# Altium schematic symbol library Faydali_Yuk_Schlib1.SchLib: 26 symbols
Pins are listed as number, name and electrical type; pins without a type are passive.

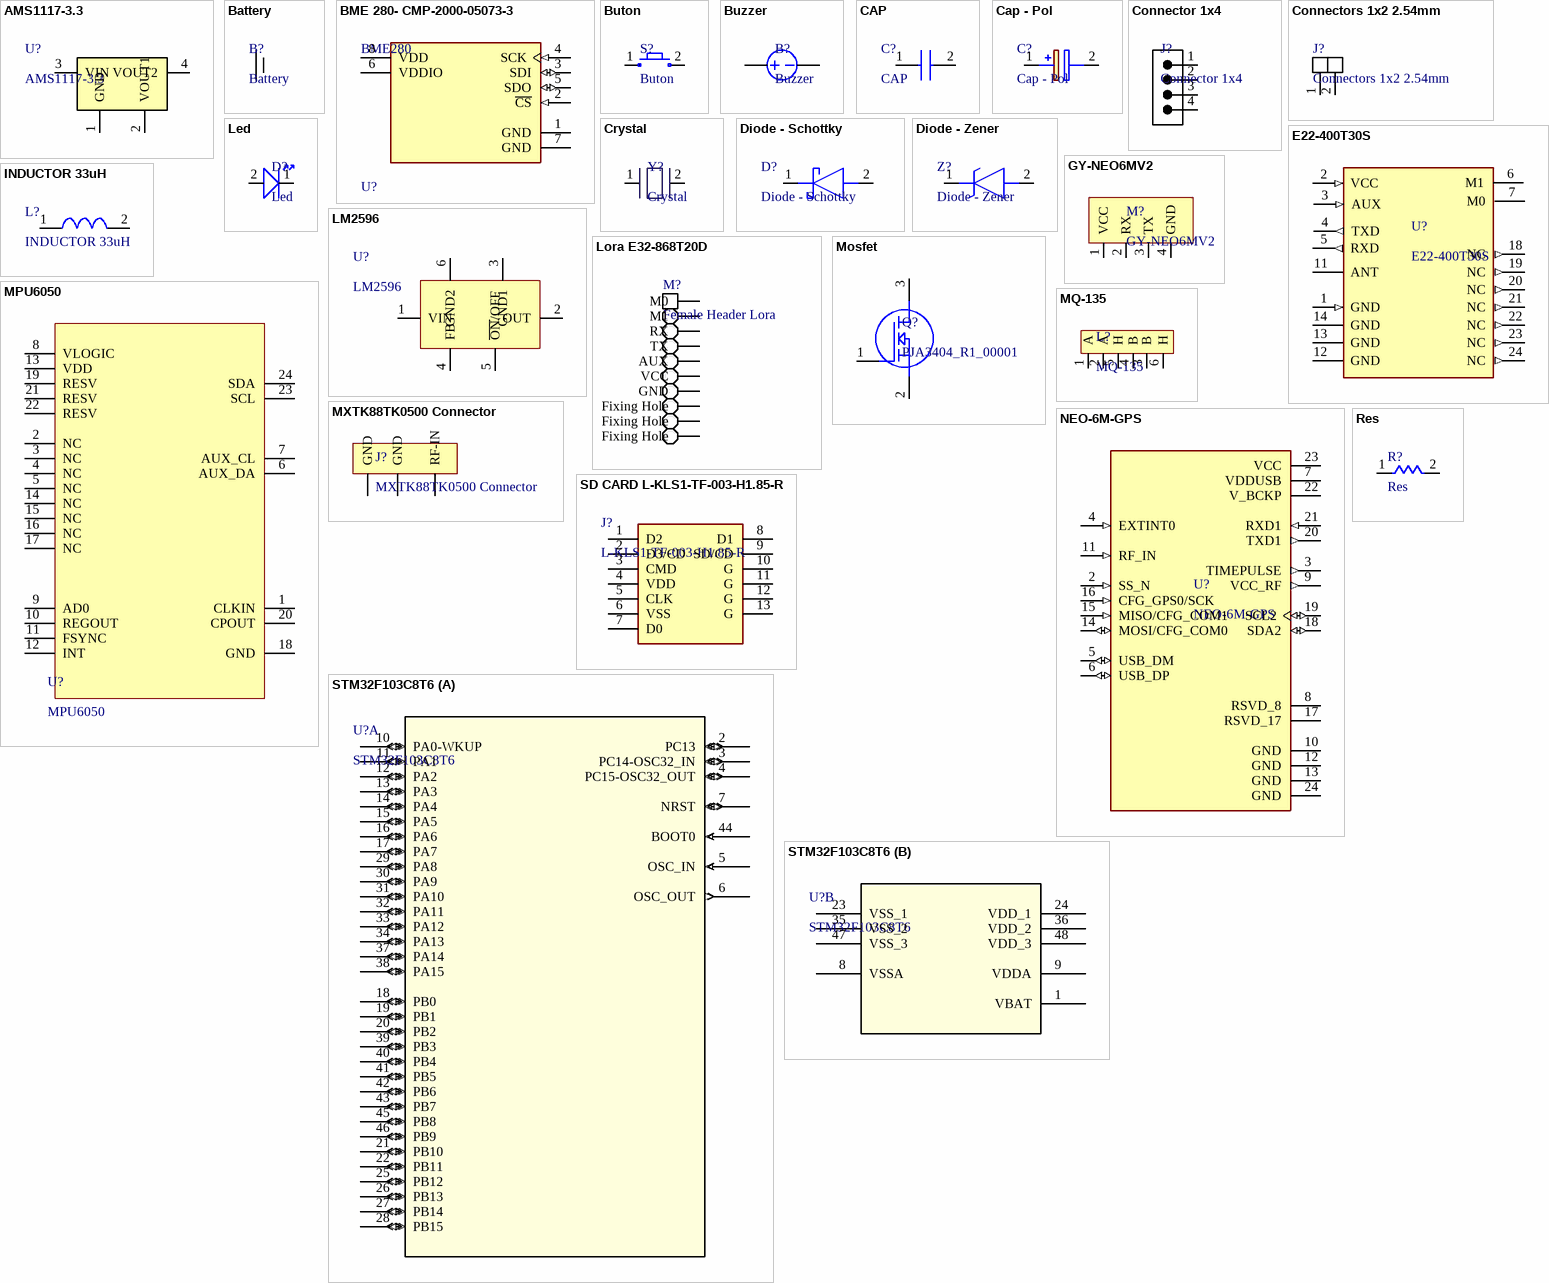
[diagram p0: symbols AMS1117-3.3 to STM32F103C8T6]

## AMS1117-3.3
designator U?
Manufacturer_Name: Advanced Monolithic Systems; Datasheet Link: http://www.advanced-monolithic.com/pdf/ds1117.pdf; Height: 1.8mm; Manufacturer_Part_Number: AMS1117-3.3; ComponentLink1Description: Satın Alma Linki; ComponentLink1URL: https://ozdisan.com/entegre-devreler-ics/guc-entegreleri/lineer-voltaj-regulatorleri/AMS1117-3-3
footprint SOT-223 - AMS1117-3.3
pins: 1 GND, 2 VOUT1, 3 VIN, 4 VOUT2

## Battery
designator B?
ComponentLink1Description: Satın Alma Linki; ComponentLink1URL: https://www.gittigidiyor.com/bilgisayar-tablet/12v-2-6a-lityum-batarya_pdp_728518934
footprint Lityum Battery

## BME 280- CMP-2000-05073-3
designator U?, comment BME280
SENSOR PRESSURE HUMIDITY TEMP; Sensor Type: Temperature; Accuracy: 3%; Response Time: 1s; Output Type: SPI; Min Operating Temperature: -40°C; Max Operating Temperature: 85°C; Case/Package: LGA; Packaging: Cut Tape; Mount: Surface Mount; Lead Free: Lead Free; Number of Pins: 8; ComponentLink1Description: Satın Alma Linki; ComponentLink1URL: https://ozdisan.com/optolar-ve-sensorler/sensorler/nem-sensorleri/BME280; ComponentLink2Description: Datasheet; ComponentLink2URL: https://cdn.ozdisan.com/ETicaret_Dosya/611017_160241.pdf
footprint BME280 - FP-BME280-MFG
pins: 1 GND (power), 2 ~{CS} (in), 3 SDI (io), 4 SCK (in), 5 SDO (io), 6 VDDIO (power), 7 GND (power), 8 VDD (power)

## Buton
designator S?
DTSMF-31R-V-T/R - SWITCH TACT 6.00x3.50 4.30mm 260gF SMT V/T; ComponentLink1Description: Satın Alma Linki; ComponentLink1URL: https://ozdisan.com/Product/Detail/354235/DTSMF-31R-V-TR; ComponentLink2Description: Datasheet; ComponentLink2URL: https://cdn.ozdisan.com/ETicaret_Dosya/485632_396522.pdf
footprint Button - DTSMF31RVTR
pins: 1, 2

## Buzzer
designator B?
ComponentLink1Description: Satın Alma Linki; ComponentLink1URL: https://www.robotistan.com/buzzer; ComponentLink2Description: Datasheet; ComponentLink2URL: *
footprint Buzzer
pins: 1, 2

## CAP
designator C?
Capacitor; ComponentLink1Description: Satın Alma Linki; ComponentLink1URL: https://ozdisan.com/pasif-komponentler/kondansatorler/smt-smd-ve-mlcc-kondansatorler/CL10B472KB8NNNC; ComponentLink2Description: Satın Alma Linki; ComponentLink2URL: https://ozdisan.com/pasif-komponentler/kondansatorler/smt-smd-ve-mlcc-kondansatorler/CL10C200JB8NNNC; ComponentLink3Description: Satın Alma Linki; ComponentLink3URL: https://ozdisan.com/pasif-komponentler/kondansatorler/smt-smd-ve-mlcc-kondansatorler/CL10B104KB8NNNC; ComponentLink4Description: Datasheet; ComponentLink4URL: https://cdn.ozdisan.com/ETicaret_Dosya/448212_5798276.PDF; ComponentLink5Description: Satın Alma Linki; ComponentLink5URL: https://ozdisan.com/pasif-komponentler/kondansatorler/smt-smd-ve-mlcc-kondansatorler/CL10C101JB8NNNC
footprint CAP - 0603
footprint CAP - 0805
pins: 1, 2

## Cap - Pol
designator C?
Capacitor Polarised; ComponentLink1Description: Satın Alma Linki; ComponentLink1URL: https://ozdisan.com/pasif-komponentler/kondansatorler/aluminyum-kondansatorler/BDS35VC220MH10TP; ComponentLink2Description: Satın Alma Linki; ComponentLink2URL: https://ozdisan.com/pasif-komponentler/kondansatorler/aluminyum-kondansatorler/SC1H226M6L005VR; ComponentLink3Description: Satın Alma Linki; ComponentLink3URL: https://ozdisan.com/pasif-komponentler/kondansatorler/aluminyum-kondansatorler/BDA50VC10MF55TP; ComponentLink4Description: Datasheet; ComponentLink4URL: https://cdn.ozdisan.com/ETicaret_Dosya/455406_6857235.pdf
footprint CAPP_Lytic_D_6.6
footprint CAPP_Lytic_F_8.3
pins: 1 +, 2 -

## Connector 1x4
designator J?
MOLEX-705530003 - CONNECTOR HEADER 2.54MM 4P 90C GOLD; ComponentLink1Description: Datasheet; ComponentLink1URL: https://www.molex.com/pdm_docs/sd/705530003_sd.pdf; ComponentLink2Description: Satın Alma Linki; ComponentLink2URL: https://www.ozdisan.com/konnektor-ve-baglanti-elemanlari/konnektor-cesitleri/pcb-konnektorler/MOLEX-705530003
footprint Connector 1x4
pins: 1, 2, 3, 4

## Connectors 1x2 2.54mm
designator J?
2 Pin (1x2) 2.54mm Erkek Pin Header THT; ComponentLink1Description: Satın Alma Linki; ComponentLink1URL: https://www.direnc.net/2-pin-1x2-254mm-erkek-pin-header-tht; ComponentLink2Description: Datasheet; ComponentLink2URL: https://pdf.direnc.net/upload/2-pin-1x2-254mm-erkek-pin-header-tht-datasheet.pdf
footprint Connectors 1x2 2.54mm
pins: 1, 2

## Crystal
designator Y?
AS-8.000-18-SMD-TR - CRYSTAL 8.0000MHZ 18PF SMD; ComponentLink1Description: Satın Alma Linki; ComponentLink1URL: https://ozdisan.com/pasif-komponentler/kristaller-osilatorler-ve-rezanatorler/kristaller/AS-8-000-18-SMD-TR; ComponentLink2Description: Datasheet; ComponentLink2URL: https://cdn.ozdisan.com/ETicaret_Dosya/40505_2732396.pdf
footprint Crystal - HC-49S SMD
pins: 1, 2

## Diode - Schottky
designator D?
Schottky Diode; ComponentLink1Description: Satın Alma Linki; ComponentLink1URL: https://ozdisan.com/guc-yari-iletkenleri/diyotlar-modul-diyotlar-ve-dogrultucular/schottky-diyotlar/SK56-HT; ComponentLink2Description: Datasheet; ComponentLink2URL: https://cdn.ozdisan.com/ETicaret_Dosya/475561_8333135.pdf
footprint DO214AB (SMC)
pins: 1 K, 2 A

## Diode - Zener
designator Z?
Zener Diode; ComponentLink1Description: Satın Alma Linki; ComponentLink1URL: https://www.ozdisan.com/guc-yari-iletkenleri/diyotlar-modul-diyotlar-ve-dogrultucular/zener-diyotlar/ZMM55C3V3-HT; ComponentLink2Description: Datasheet; ComponentLink2URL: https://cdn.ozdisan.com/ETicaret_Dosya/417232_6139407.pdf
footprint SOD-80 (MINIMELF)
pins: 1 K, 2 A

## E22-400T30S
designator U?
E22-400T30S is a wireless serial port module _UART_ based on SEMTECH's SX1262 RF chip.; MP: E22-900T30S; MF: EBYTE; Package: Package Analog Devices; Price: None; Value: *; SnapEDA_Link: https://www.snapeda.com/parts/E22-900T30S/EBYTE/view-part/3611926/?ref=snap; Availability: Unavailable; ComponentLink1Description: Satın Alma L,nk,; ComponentLink1URL: https://www.f1depo.com/urun/ebyte-e220-400t30s-433-mhz-30dbm-lora-modul-10km; ComponentLink2Description: Datasheet; ComponentLink2URL: https://www.google.com/search?q=EBYTE+E220-400T30S+433+Mhz+30dbm+Lora+Mod%C3%BCl+datasheet&oq=EBYTE+E220-400T30S+433+Mhz+30dbm+Lora+Mod%C3%BCl+datasheet&aqs=chrome..69i57j33i10i21.2976j0j7&sourceid=chrome&ie=UTF-8
footprint E220-400T30S
pins: 1 GND (in), 2 VCC (in), 3 AUX (in), 4 TXD (out), 5 RXD (out), 6 M1 (power), 7 M0 (power), 11 ANT (power), 12 GND (power), 13 GND (power), 14 GND (power), 18 NC (out), 19 NC (out), 20 NC (out), 21 NC (out), 22 NC (out), 23 NC (out), 24 NC (out)

## GY-NEO6MV2
designator M?
GY-NEO6MV2 GPS Modülü - Uçuş Kontrol Sistem GPS′i; ComponentLink1Description: Satın Alma Linki; ComponentLink1URL: https://www.robotistan.com/gy-neo6mv2-gps-modulu-ucus-kontrol-sistem-gpsi; ComponentLink2Description: Datasheet; ComponentLink2URL: https://www.rlocman.ru/i/File/2011/04/22/1.pdf
footprint GY-NEO6MV2
pins: 1 VCC, 2 RX, 3 TX, 4 GND

## INDUCTOR 33uH
designator L?
SRI1204-330M - INDUCTOR POWER 33UH 12X12X5MM SMD; ComponentLink1Description: Datasheet; ComponentLink1URL: https://cdn.ozdisan.com/ETicaret_Dosya/501799_1085379.pdf; ComponentLink2Description: Satın Alma Linki; ComponentLink2URL: https://ozdisan.com/pasif-komponentler/induktorler/sabit-induktorler/SRI1204-330M
footprint INDUCTOR  - 12X12 SMD
pins: 1, 2

## Led
designator D?
HL-PST-1608U51GC - LED SMD 0603 GREEN 500mcd 120° WATER CLEAR; ComponentLink1Description: Satın Alma Linki; ComponentLink1URL: https://ozdisan.com/Product/Detail/471660/HL-PST-1608U51GC; ComponentLink2Description: Datasheet; ComponentLink2URL: https://cdn.ozdisan.com/ETicaret_Dosya/471660_7204356.pdf
footprint LED - 0603
pins: 1, 2

## LM2596
designator U?
LM2596R-5.0-HTC - IC-2596 V.REG.3A 5V STEP-DOWN TO-263-5L; ComponentLink1Description: Datasheet; ComponentLink1URL: https://cdn.ozdisan.com/ETicaret_Dosya/587696_4979854.pdf; ComponentLink2Description: Satın Alma Linki; ComponentLink2URL: https://ozdisan.com/entegre-devreler-ics/guc-entegreleri/dc-dc-voltaj-regulatorleri/LM2596R-5-0-HTC
footprint TO263-5 (D2PAK-5) - LM2596R-5.0-HTC
pins: 1 VIN, 2 OUT, 3 GND1, 4 FB, 5 ~{ON}/OFF, 6 GND2

## Lora E32-868T20D
designator M?, comment Female Header Lora
E32-868T20D; ComponentLink3Description: Satın Alma Linki; ComponentLink3URL: https://urun.n11.com/arduino-urunleri-ve-setleri/yeni-868-mhz-915mhz-5km-menzilli-20dbm-100mw-e32-900t20d-lora-P485945526; ComponentLink4Description: Datasheet; ComponentLink4URL: https://www.ebyte.com/en/product-view-news.html?id=132
footprint Lora - E32-868T20D
pins: 1 M0, 2 M1, 3 RX, 4 TX, 5 AUX, 6 VCC, 7 GND, 8 Fixing Hole, 9 Fixing Hole, 10 Fixing Hole

## Mosfet
designator Q?, comment PJA3404_R1_00001
PJA3404_R1_00001 - MOSFET DIS.5.6A 30V N-CH SOT23 ENHANCEMENT SMT; ComponentLink1Description: Satın Alma Linki; ComponentLink1URL: https://www.ozdisan.com/guc-yari-iletkenleri/mosfetler/mosfet-discrete/PJA3404R100001; ComponentLink2Description: Datasheet; ComponentLink2URL: https://cdn.ozdisan.com/ETicaret_Dosya/462895_6521209.pdf
footprint SOT95P240X110-3N (SOT23, 3-Leads, Body 2,92x2,40mm, Pitch 0,95mm, IPC Medium Density)
pins: 1, 2, 3

## MPU6050
designator U?
MPU6050 GYRO; ComponentLink1Description: Satın Alma Linki; ComponentLink1URL: https://tr.aliexpress.com/item/1005001724323744.html?gatewayAdapt=glo2tur&_randl_currency=TRY&_randl_shipto=TR&src=google&aff_fcid=dbdd7f5563804875a046a33b7e55afff-1643366594388-08611-UneMJZVf&aff_fsk=UneMJZVf&aff_platform=aaf&sk=UneMJZVf&aff_trace_key=dbdd7f5563804875a046a33b7e55afff-1643366594388-08611-UneMJZVf&terminal_id=cd33f9e12bf84a9c9c6bb26df30b5329; ComponentLink2Description: Datasheet; ComponentLink2URL: https://invensense.tdk.com/wp-content/uploads/2015/02/MPU-6000-Datasheet1.pdf
footprint QFN50P400X400X90_HS-25N - duplicate (QFN, 24-Leads, Body 4,00x4,00mm, Pitch 0,50mm, Thermal Pad 2,70x2,60mm, IPC Medium Density)
pins: 1 CLKIN, 2 NC, 3 NC, 4 NC, 5 NC, 6 AUX_DA, 7 AUX_CL, 8 VLOGIC, 9 AD0, 10 REGOUT, 11 FSYNC, 12 INT, 13 VDD, 14 NC, 15 NC, 16 NC, 17 NC, 18 GND, 19 RESV, 20 CPOUT, 21 RESV, 22 RESV, 23 SCL, 24 SDA

## MQ-135
designator L?
ComponentLink1Description: Satın Alma Linki; ComponentLink1URL: https://www.robotistan.com/hava-kalite-sensoru-mq-135; ComponentLink2Description: Datasheet; ComponentLink2URL: https://www.olimex.com/Products/Components/Sensors/Gas/SNS-MQ135/resources/SNS-MQ135.pdf
footprint MQ-135
pins: 1 A, 2 A, 3 B, 4 B, 5 H, 6 H

## MXTK88TK0500 Connector
designator J?
CABLE ASSEMBLY COAXIAL 0.5m GSC CONN.PL-PL; ComponentLink1Description: Datashet; ComponentLink1URL: https://www.robo90.com/ufl-rf-konnektor-smd-ipex-pcb-konnektor?gclid=Cj0KCQiAjJOQBhCkARIsAEKMtO3EQQtFxcQxxYyV63gND7p49a9U-0KiGjZnTbRHjlZa4_YkA7jEr6QaAmQAEALw_wcB; ComponentLink2Description: Satın Alma Linki; ComponentLink2URL: https://ozdisan.com/konnektor-ve-baglanti-elemanlari/koaksiyel-konnektorler/koaksiyel-kablo-birlestiricileri/MXTK88TK0500; ComponentLink3Description: New link; ComponentLink3URL: *
footprint MXTK88TK0500 Connector
pins: 1 GND, 2 GND, 3 RF-IN

## NEO-6M-GPS
designator U?
SMD GPS Module;; MF: u-blox; Availability: Unavailable; MP: NEO-6M-GPS; Package: None; SnapEDA_Link: https://www.snapeda.com/parts/NEO-6M-GPS/u-blox/view-part/105879/?ref=snap; Value: *; Price: None; ComponentLink1Description: Datasheet; ComponentLink1URL: https://cdn.ozdisan.com/ETicaret_Dosya/634963_988117.PDF; ComponentLink2Description: Datasheet; ComponentLink2URL: https://www.u-blox.com/sites/default/files/products/documents/LEA-NEO-MAX-6_HIM_%28UBX-14054794%29.pdf?utm_source=en%2Fimages%2Fdownloads%2FProduct_Docs%2FLEA-6_NEO-6_MAX-6_HardwareIntegrationManual_%28GPS.G6-HW-09007%29.pdf#page=33&zoom=100,72,125; ComponentLink3Description: Satın Alma Linki; ComponentLink3URL: https://www.robo90.com/ufl-rf-konnektor-smd-ipex-pcb-konnektor?gclid=Cj0KCQiAjJOQBhCkARIsAEKMtO3EQQtFxcQxxYyV63gND7p49a9U-0KiGjZnTbRHjlZa4_YkA7jEr6QaAmQAEALw_wcB; ComponentLink4Description: Satın Alma Linki; ComponentLink4URL: https://www.robocombo.com/u-blox-NEO-6M-GPS-Modulu,PR-1278.html; ComponentLink5Description: Bağlantı Linki; ComponentLink5URL: https://chris-stubbs.co.uk/wp/?p=252
footprint XCVR_NEO-6M-GPS
pins: 2 SS_N (in), 3 TIMEPULSE (out), 4 EXTINT0 (in), 5 USB_DM (io), 6 USB_DP (io), 7 VDDUSB (power), 8 RSVD_8, 9 VCC_RF (out), 10 GND (power), 11 RF_IN (in), 12 GND (power), 13 GND (power), 14 MOSI/CFG_COM0 (io), 15 MISO/CFG_COM1 (in), 16 CFG_GPS0/SCK (in), 17 RSVD_17, 18 SDA2 (io), 19 SCL2 (io), 20 TXD1 (out), 21 RXD1 (in), 22 V_BCKP (power), 23 VCC (power), 24 GND (power)

## Res
designator R?
SMD Res; ComponentLink1Description: Datasheet; ComponentLink1URL: https://cdn.ozdisan.com/ETicaret_Dosya/570122_9878629.pdf; ComponentLink2Description: Satın Alma Linki; ComponentLink2URL: https://www.ozdisan.com/pasif-komponentler/direncler/smt-smd-direncler/TC0325B3301T5C; ComponentLink3Description: Satın Alma Linki; ComponentLink3URL: https://ozdisan.com/pasif-komponentler/direncler/smt-smd-ve-cip-direncler/0603SAF4701T5E; ComponentLink4Description: Satın Alma Linki; ComponentLink4URL: https://ozdisan.com/pasif-komponentler/direncler/smt-smd-ve-cip-direncler/0805S8F604JT5E; ComponentLink5Description: Satın Alma Linki; ComponentLink5URL: https://ozdisan.com/pasif-komponentler/direncler/smt-smd-ve-cip-direncler/0603SAF1022T5E; ComponentLink6Description: Satın Alma Linki; ComponentLink6URL: https://www.ozdisan.com/pasif-komponentler/direncler/smt-smd-direncler/CQ03SAF0000T5E
footprint RES - 0603
footprint RES - 0805
pins: 1, 2

## SD CARD L-KLS1-TF-003-H1.85-R
designator J?, comment L-KLS1-TF-003-H1.85-R
L-KLS1-TF-003-H1.85-R - CONNECTOR MICRO SD CARD SMD KLS; Manufacturer_Name: KLS Electronic; Datasheet Link: https://img.ozdisan.com/ETicaret_Dosya/476392_7149645.pdf; Manufacturer_Part_Number: L-KLS1-TF-003-H1.85-R; ComponentLink1Description: Satın Alma Linki; ComponentLink1URL: https://ozdisan.com/Product/Detail/466548/L-KLS1-TF-003-H1-85-R; ComponentLink2Description: Datasheet; ComponentLink2URL: https://cdn.ozdisan.com/ETicaret_Dosya/466548_2616024.PDF
footprint SD CARD L-KLS1-TF-003-H1.85-R
pins: 1 D2, 2 D3/CD, 3 CMD, 4 VDD, 5 CLK, 6 VSS, 7 D0, 8 D1, 9 SD/CD, 10 G, 11 G, 12 G, 13 G

## STM32F103C8T6
designator U?
Microcontroller; Mfr_Name: STMicroelectronics; Copyright: Copyright (C) 2021 Ultra Librarian. All rights reserved.; Manufacturer_Part_Number: STM32F103C8T6; RefDes: RefDes; Type: DEV
footprint LQFP48
part A pins: 2 PC13 (io), 3 PC14-OSC32_IN (io), 4 PC15-OSC32_OUT (io), 5 OSC_IN (in), 6 OSC_OUT (out), 7 NRST (io), 10 PA0-WKUP (io), 11 PA1 (io), 12 PA2 (io), 13 PA3 (io), 14 PA4 (io), 15 PA5 (io), 16 PA6 (io), 17 PA7 (io), 18 PB0 (io), 19 PB1 (io), 20 PB2 (io), 21 PB10 (io), 22 PB11 (io), 25 PB12 (io), 26 PB13 (io), 27 PB14 (io), 28 PB15 (io), 29 PA8 (io), 30 PA9 (io), 31 PA10 (io), 32 PA11 (io), 33 PA12 (io), 34 PA13 (io), 37 PA14 (io), 38 PA15 (io), 39 PB3 (io), 40 PB4 (io), 41 PB5 (io), 42 PB6 (io), 43 PB7 (io), 44 BOOT0 (in), 45 PB8 (io), 46 PB9 (io)
part B pins: 1 VBAT (power), 8 VSSA (power), 9 VDDA (power), 23 VSS_1 (power), 24 VDD_1 (power), 35 VSS_2 (power), 36 VDD_2 (power), 47 VSS_3 (power), 48 VDD_3 (power)